# EAGLE library part SP8M3 (library smok)
Two MOSFETs in 8-pin package (N and P type)
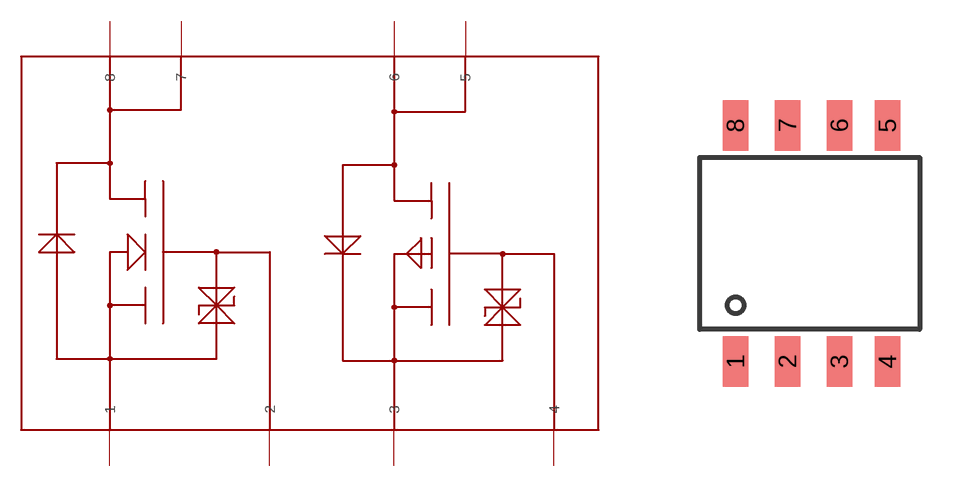
[diagram p0: symbol with the pads of SOP8; footprint SOP8]

Designator prefix -

## SP8M3  [SOP8]
1  1
2  2
3  3
4  4
5  5
6  6
7  7
8  8

## Footprint SOP8 (pad centres in mm)
smd 0.635 x 1.27: 1 -1.9,-3; 2 -0.6,-3; 3 0.7,-3; 4 1.9,-3; 5 1.9,2.9; 6 0.7,2.9; 7 -0.6,2.9; 8 -1.9,2.9